# EAGLE library part ATSHA204_SOIC8 (library atmega328pb_tqfn)
ATSHA204
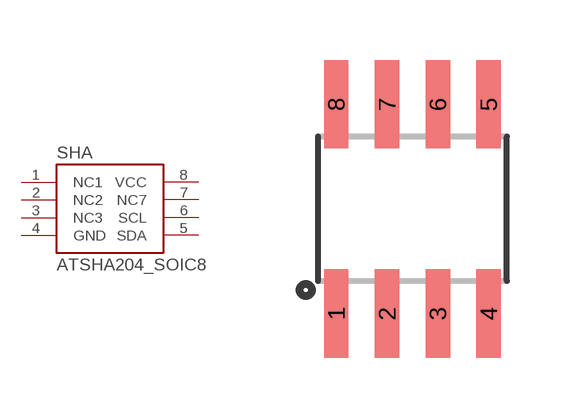
[diagram p125: symbol with the pads of SOIC8; footprint SOIC8]

Designator prefix SHA

## ATSHA204_SOIC8 (PROD_ID: IC-11981)  [SOIC8]
1  NC1  nc
2  NC2  nc
3  NC3  nc
4  GND  pwr
5  SDA
6  SCL
7  NC7  nc
8  VCC  pwr

## Footprint SOIC8 (pad centres in mm)
SOIC 8-Lead
smd 0.61 x 2.21: 1 -1.905,-2.616; 2 -0.635,-2.616; 3 0.635,-2.616; 4 1.905,-2.616; 5 1.905,2.616; 6 0.635,2.616; 7 -0.635,2.616; 8 -1.905,2.616